# Altium footprint library Sheye-Key.PcbLib: 8 footprints
Each footprint in its own frame and in the unit in brackets; x right, y up, seen from the top. Pads: shape width x height; smd on the part's side, far side on the other; paste and mask are expansions set on the pad; w line width, h text height; cw(c..) or ccw(c..) is an arc to the next point about the centre after c.
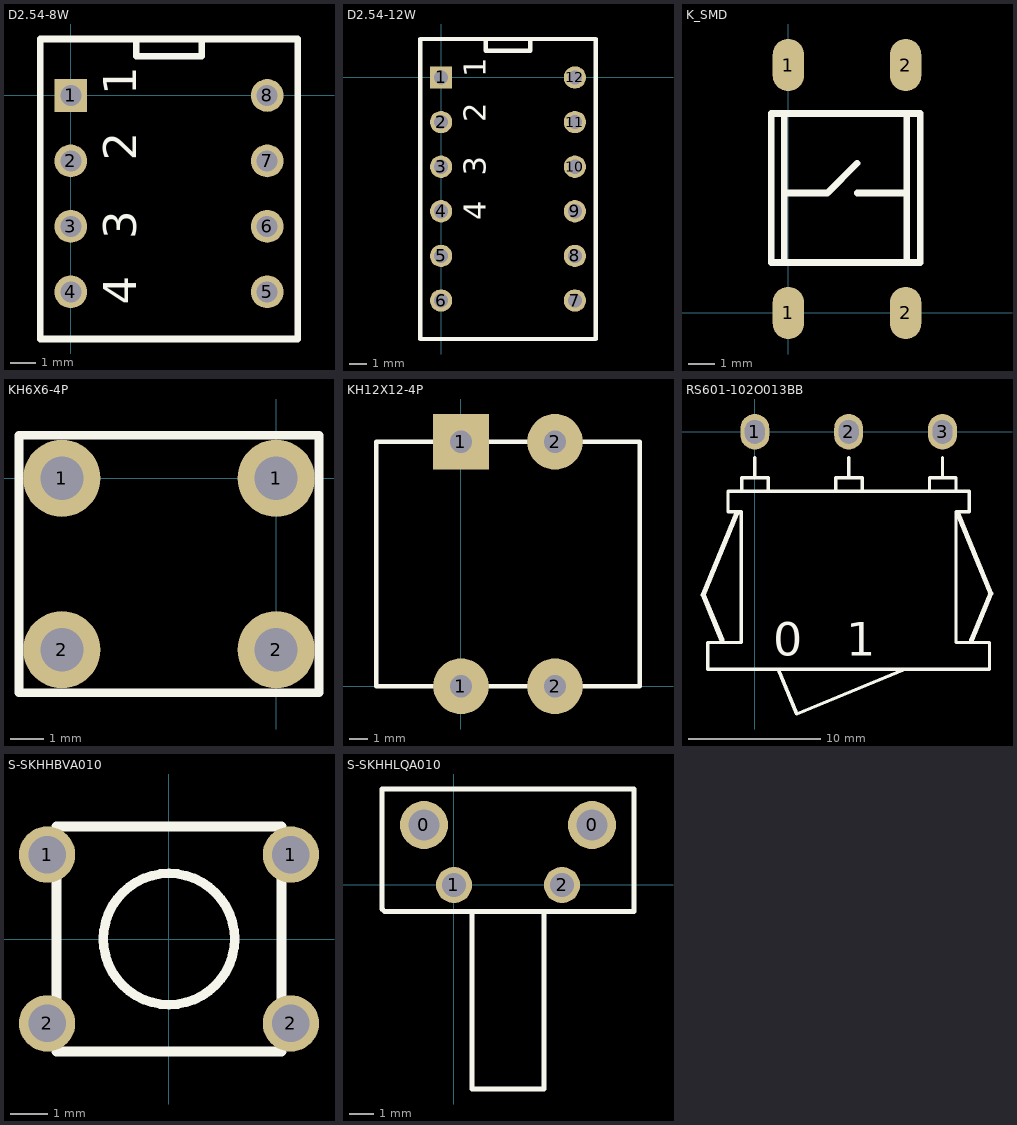
[diagram p0: the footprints below, top view; thin cyan lines are the x and y axes]

## D2.54-8W [mil] "DIP8W"
pads (8):
  rect 50x50 hole 32: 1(0,0)
  round 50 hole 32: 2(0,-100) 3(0,-200) 4(0,-300) 5(300,-300) 6(300,-200) 7(300,-100) 8(300,0)
Top Overlay:
  lines w10: 100,86.22 100,60 200,60 200,86.22 ; -46.85,-372 -46.85,86.22 346.85,86.22 346.85,-372 -46.85,-372
  text "1" at 100,0 h50
  text "2" at 100,-100 h50
  text "3" at 100,-220 h50
  text "4" at 100,-320 h50
3D body: height 296, standoff -101, extent -40,-375 340,75

## D2.54-12W [mil] "DIP12W"
pads (12):
  rect 50x50 hole 32: 1(0,0)
  round 50 hole 32: 2(0,-100) 3(0,-200) 4(0,-300) 5(0,-400) 6(0,-500) 7(300,-500) 8(300,-400) 9(300,-300) 10(300,-200) 11(300,-100) 12(300,0)
Top Overlay:
  lines w10: -46.85,-586.22 346.85,-586.22 ; -46.85,-586 -46.85,86.22 346.85,86.22 346.85,-586 ; 100,86.22 100,60 200,60 200,86.22
  text "4" at 100,-320 h50
  text "3" at 100,-220 h50
  text "2" at 100,-100 h50
  text "1" at 100,0 h50
3D body: height 296, standoff -101, extent -44,-363.78 336,86.22

## K_SMD [mm] "6mmX6mm"
pads (4):
  oval 1.2x2 smd: 1(0,0) 1(0,9.5) 2(4.5,0) 2(4.5,9.5)
Top Overlay:
  lines w0.254: -0.152,1.93 -0.152,7.645 ; -0.025,4.597 1.499,4.597 2.642,5.74 ; 2.642,4.597 4.547,4.597 ; 4.547,1.93 4.547,7.645 ; -0.66,1.93 -0.66,7.645 5.055,7.645 5.055,1.93 -0.66,1.93
3D body: height 5, standoff 0, extent -0.79,-0.246 5.21,9.754

## KH6X6-4P [mil] "DIP4-HL/.25"
pads (4):
  round 90 hole 50.39: 1(-250,0) 1(0,0) 2(-250,-200) 2(0,-200)
Top Overlay:
  lines w10: -300,-250 50,-250 50,50 -300,50 -300,-250
3D body: height 285.59, standoff -127.8, extent -276.24,-227.3 34.78,16.8

## KH12X12-4P [mm] "DIP4-HL"
pads (4):
  round 3 hole 1.2: 1(0,0) 2(5.08,0) 2(5.08,13.208)
  rect 3x3 hole 1.2: 1(0,13.208)
Top Overlay:
  lines w0.254: -4.572,0 9.652,0 9.652,13.208 -4.572,13.208 -4.572,0
3D body: height 7.25, standoff -3.25, extent -1.556,3.498 6.344,9.698

## RS601-102O013BB [mm]
height 0.025
pads (3):
  oval 2.2x2.7 hole 1.5 slot 1.8 at 91 deg: 1(0,0) 2(7.112,0) 3(14.224,0)
Top Overlay:
  lines w0.254: -2.032,-6.064 -1.016,-6.064 -1.016,-15.97 -3.556,-15.97 -3.556,-18.002 17.78,-18.002 17.78,-15.97 15.24,-15.97 15.24,-6.064 16.256,-6.064 ; -2.032,-6 -2.032,-4.5 16.256,-4.5 16.256,-6 ; -0.986,-4.5 -0.986,-3.484 1.016,-3.484 1.016,-4.5 ; 0,-3.484 0,-1.96 ; 1.778,-18.002 3.179,-21.384 11.417,-17.971 ; 6.126,-4.5 6.126,-3.484 8.128,-3.484 8.128,-4.5 ; 7.112,-3.484 7.112,-1.96 ; 13.238,-4.5 13.238,-3.484 15.24,-3.484 15.24,-4.5 ; 14.224,-3.484 14.224,-1.96
  lines w0.381: -2.486,-15.802 -3.917,-12.349 -1.359,-6.173 ; 15.375,-6.178 17.887,-12.243 16.428,-15.766
  text "0   1" at 1.397,-16.986 h2.54
3D body: height 9, standoff 6, extent 13.411,-4.5 15.088,-0.533
3D body: height 9, standoff 6, extent 6.325,-4.5 8.001,-0.533
3D body: height 9, standoff 6, extent -0.787,-4.498 0.889,-0.531
3D body: height 9, standoff -6, extent 13.564,-0.533 14.859,0.508
3D body: height 9, standoff -6, extent 6.452,-0.533 7.747,0.508
3D body: height 9, standoff -6, extent -0.66,-0.533 0.635,0.508
3D body: height 14, standoff -1, extent -3.556,-18.002 17.78,-15.97
3D body: height 12, standoff 0, extent -2.032,-15.97 16.256,-4.5

## S-SKHHBVA010 [mm]
pads (4):
  round 1.5 hole 1: 1(-3.25,2.25) 1(3.25,2.25) 2(-3.25,-2.25) 2(3.25,-2.25)
Top Overlay:
  circle w0.254: c0,0 r1.75
  lines w0.254: -3,-3 -3,3 3,3 3,-3 -3,-3
3D body: height 7, standoff -3.5, extent -3.95,-3.099 3.95,3.101

## S-SKHHLQA010 [mm]
pads (4):
  round 2 hole 1.3: 0(-1.25,2.5) 0(5.75,2.5)
  round 1.5 hole 1: 1(0,0) 2(4.5,0)
Top Overlay:
  lines w0.2: 0.75,-1.1 0.75,-8.5 3.75,-8.5 3.75,-1.1 ; -3,-1 -2.9,-1.1 7.5,-1.1 7.5,4 -3,4 -3,-1
3D body: height 8.4, standoff -2.5, extent -2.15,-8.359 6.35,4.041